# Altium integrated library WE_WR-TBL_Spring Clamp System_10.16 mm_rev15a.IntLib: 7 symbols
Pins are listed as number, name and electrical type; pins without a type are passive.

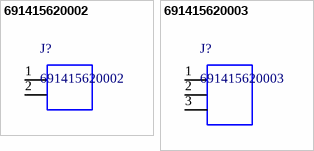
[diagram p0: symbols 691415620002 to 691415620003]

## 691415620002
designator J?
WR-TBL 45° Cable Entry Screwless, Serie 4156 - 10.16 mm; Manufacturer: Wurth Elektronik; ComponentLink1 Description: Manufacturer; ComponentLink2 Description: Datasheet; ComponentLink1URL: http://www.we-online.de; ComponentLink2URL: http://katalog.we-online.de/em/datasheet/6914156200xx.pdf; Created by: Baojun Chen; Created Date: 8.Sep.2015; partNo: 691415620002
footprint 691415620002 (Serie 4156 - 10.16 mm _ 2 pins)
pins: 1, 2

## 691415620003
designator J?
WR-TBL 45° Cable Entry Screwless, Serie 4156 - 10.16 mm; Manufacturer: Wurth Elektronik; ComponentLink1 Description: Manufacturer; ComponentLink2 Description: Datasheet; ComponentLink1URL: http://www.we-online.de; ComponentLink2URL: http://katalog.we-online.de/em/datasheet/6914156200xx.pdf; Created by: Baojun Chen; Created Date: 8.Sep.2015; partNo: 691415620003
footprint 691415620003 (Serie 4156 - 10.16 mm _ 3 pins)
pins: 1, 2, 3


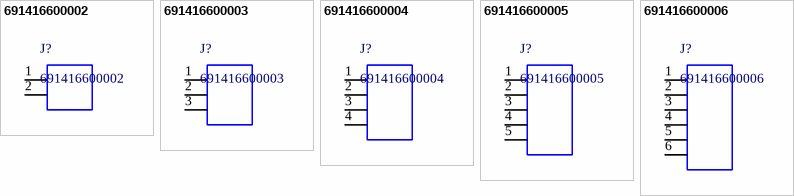
[diagram p1: symbols 691416600002 to 691416600006]

## 691416600002
designator J?
WR-TBL Vertical Cable Entry Screwless, Serie 4166 - 10.16 mm; Manufacturer: Wurth Elektronik; ComponentLink1 Description: Manufacturer; ComponentLink2 Description: Datasheet; ComponentLink1URL: http://www.we-online.de; ComponentLink2URL: http://katalog.we-online.de/em/datasheet/6914166000xx.pdf; Created by: Baojun Chen; Created Date: 8.Sep.2015; partNo: 691416600002
footprint 691416600002 (Serie 4166 - 10.16 mm _ 2 pins)
pins: 1, 2

## 691416600003
designator J?
WR-TBL Vertical Cable Entry Screwless, Serie 4166 - 10.16 mm; Manufacturer: Wurth Elektronik; ComponentLink1 Description: Manufacturer; ComponentLink2 Description: Datasheet; ComponentLink1URL: http://www.we-online.de; ComponentLink2URL: http://katalog.we-online.de/em/datasheet/6914166000xx.pdf; Created by: Baojun Chen; Created Date: 8.Sep.2015; partNo: 691416600003
footprint 691416600003 (Serie 4166 - 10.16 mm _ 3 pins)
pins: 1, 2, 3

## 691416600004
designator J?
WR-TBL Vertical Cable Entry Screwless, Serie 4166 - 10.16 mm; Manufacturer: Wurth Elektronik; ComponentLink1 Description: Manufacturer; ComponentLink2 Description: Datasheet; ComponentLink1URL: http://www.we-online.de; ComponentLink2URL: http://katalog.we-online.de/em/datasheet/6914166000xx.pdf; Created by: Baojun Chen; Created Date: 8.Sep.2015; partNo: 691416600004
footprint 691416600004 (Serie 4166 - 10.16 mm _ 4 pins)
pins: 1, 2, 3, 4

## 691416600005
designator J?
WR-TBL Vertical Cable Entry Screwless, Serie 4166 - 10.16 mm; Manufacturer: Wurth Elektronik; ComponentLink1 Description: Manufacturer; ComponentLink2 Description: Datasheet; ComponentLink1URL: http://www.we-online.de; ComponentLink2URL: http://katalog.we-online.de/em/datasheet/6914166000xx.pdf; Created by: Baojun Chen; Created Date: 8.Sep.2015; partNo: 691416600005
footprint 691416600005 (Serie 4166 - 10.16 mm _ 5 pins)
pins: 1, 2, 3, 4, 5

## 691416600006
designator J?
WR-TBL Vertical Cable Entry Screwless, Serie 4166 - 10.16 mm; Manufacturer: Wurth Elektronik; ComponentLink1 Description: Manufacturer; ComponentLink2 Description: Datasheet; ComponentLink1URL: http://www.we-online.de; ComponentLink2URL: http://katalog.we-online.de/em/datasheet/6914166000xx.pdf; Created by: Baojun Chen; Created Date: 8.Sep.2015; partNo: 691416600006
footprint 691416600006 (Serie 4166 - 10.16 mm _ 6 pins)
pins: 1, 2, 3, 4, 5, 6